# Altium schematic symbol library LTC6992.Schlib: 1 symbol
Pins are listed as number, name and electrical type; pins without a type are passive.

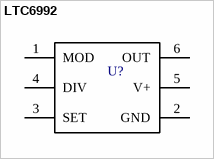
[diagram p0: symbol LTC6992]

## LTC6992
designator U?  (value not drawn)
pins: 1 MOD, 2 GND, 3 SET, 4 DIV, 5 V+, 6 OUT